# EAGLE library part LM2576SX-5.0_NOPB (library V_REG)
SIMPLE SWITCHER® 40V, 3A Low Component Count Step-Down Regulator Source: Datasheet <http://www.ti.com/lit/gpn/lm2576>
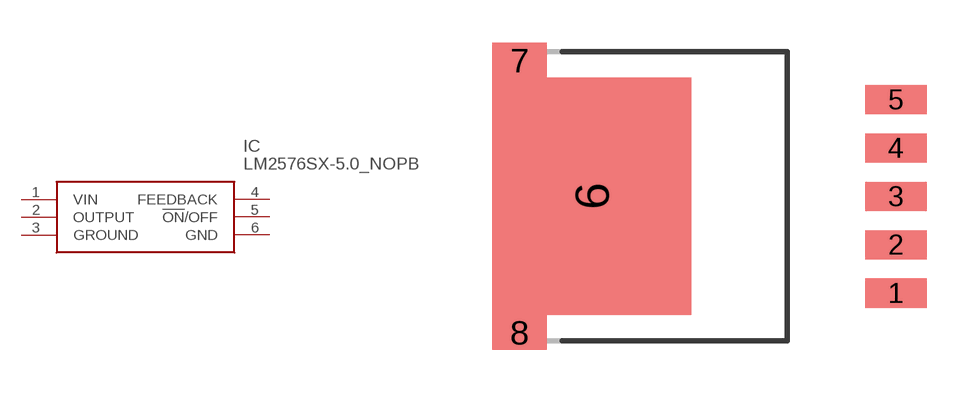
[diagram p0: symbol with the pads of KTT0005B; footprint KTT0005B]

Designator prefix IC

## LM2576SX-5.0_NOPB (DESCRIPTION: SIMPLE SWITCHER&#174; 40V, 3A Low Component Count Step-Down Regulator; HEIGHT: mm; MANUFACTURER_NAME: Texas Instruments; MANUFACTURER_PART_NUMBER: LM2576SX-5.0/NOPB; MOUSER_PART_NUMBER: 926-LM2576SX-5.0NOPB; MOUSER_PRICE-STOCK: https://www.mouser.com/Search/Refine.aspx?Keyword=926-LM2576SX-5.0NOPB)  [KTT0005B]
1  VIN
2  OUTPUT
3  GROUND
4  FEEDBACK
5  !ON!/OFF
6  GND

## Footprint KTT0005B (pad centres in mm)
KTT0005B
smd 2.16 x 1.02: 1 12.461,-3.4; 2 12.461,-1.7; 3 12.461,0; 4 12.461,1.7; 5 12.461,3.4
smd 6.99 x 8.33: 6 1.786,0
smd 1.91 x 1.235: 7 -0.754,4.782; 8 -0.754,-4.782